# Altium schematic symbol library FFC, FPC (Flat Flexible) Connectors.SchLib: 1 symbol
Pins are listed as number, name and electrical type; pins without a type are passive.

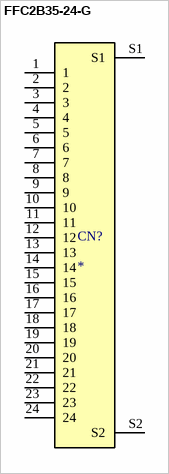
[diagram p0: symbol FFC2B35-24-G]

## FFC2B35-24-G
designator CN?
24W,0.5MM FFC CON,R/A,BOTTOM CON; Supplier 1: Farnell; Supplier Part Number 1: 3933410
footprint FFC2B35-24-G
pins: 1, 2, 3, 4, 5, 6, 7, 8, 9, 10, 11, 12, 13, 14, 15, 16, 17, 18, 19, 20, 21, 22, 23, 24, S1, S2